# Altium footprint library JS202011SCQN.PcbLib: 1 footprints
Each footprint in its own frame and in the unit in brackets; x right, y up, seen from the top. Pads: shape width x height; smd on the part's side, far side on the other; paste and mask are expansions set on the pad; w line width, h text height; cw(c..) or ccw(c..) is an arc to the next point about the centre after c.
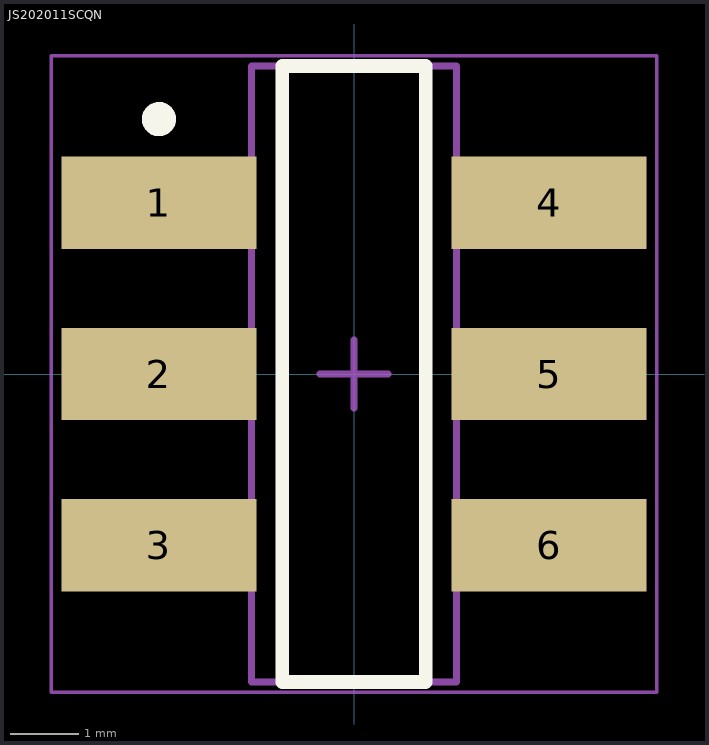
[diagram p0: the footprint, top view; thin cyan lines are the x and y axes]

## JS202011SCQN [mm] "JS202011SCQN"
height 3.5
pads (6):
  rect 2.85x1.35 smd: 1(-2.85,2.5) 2(-2.85,0) 3(-2.85,-2.5) 4(2.85,2.5) 5(2.85,0) 6(2.85,-2.5)
Top Overlay:
  circle w0.25: c-2.85,3.725 r0.125
  lines w0.2: -1.05,-4.5 1.05,-4.5 1.05,4.5 -1.05,4.5 -1.05,-4.5
Mechanical 13:
  lines w0.1: -1.5,-4.5 -1.5,4.5 1.5,4.5 1.5,-4.5 -1.5,-4.5
Mechanical 15:
  lines w0.05: -4.425,-4.65 -4.425,4.65 4.425,4.65 4.425,-4.65 -4.425,-4.65
  lines w0.1: -0.5,0 0.5,0 ; 0,-0.5 0,0.5
3D body "js202011scqn.stp": height 5.22, standoff -0.28, extent -3.725,-4.555 3.775,4.445